# EAGLE library part TCA9554A_PW_16 (library Capstone Library)
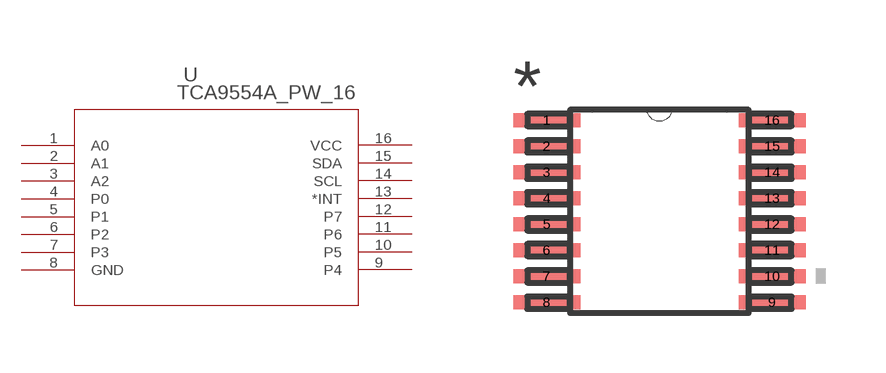
[diagram p9: symbol with the pads of PW16; footprint PW16]

Designator prefix U

## TCA9554A_PW_16 (DATASHEETURL: http://www.ti.com/lit/gpn/TCA9554A; DESCRIPTION: Remote 8-Bit I2C and SMBus I/O Expander; FAMILY_NAME: I2C IO EXPANDER; GENERIC_PART_NUMBER: TCA9554A; INDUSTRY_STD_PKG_TYPE: TSSOP; MANUFACTURER: Texas Instruments; MANUFACTURER_PART_NUMBER: tca9554a_pw_16; PACKAGE_DESIGNATOR: PW; PIN_COUNT: 16; VENDOR: Texas Instruments)  [PW16]
1  A0  in
2  A1  in
3  A2  in
4  P0
5  P1
6  P2
7  P3
8  GND  pwr
9  P4
10  P5
11  P6
12  P7
13  *INT  out
14  SCL
15  SDA
16  VCC  pwr

## Footprint PW16 (pad centres in mm)
smd 1.676 x 0.356: 1 -2.819,2.275; 2 -2.819,1.625; 3 -2.819,0.975; 4 -2.819,0.325; 5 -2.819,-0.325; 6 -2.819,-0.975; 7 -2.819,-1.625; 8 -2.819,-2.275; 9 2.819,-2.275; 10 2.819,-1.625; 11 2.819,-0.975; 12 2.819,-0.325; 13 2.819,0.325; 14 2.819,0.975; 15 2.819,1.625; 16 2.819,2.275